# Altium schematic symbol library CRISTAL E OSCILADORES.SchLib: 6 symbols
Pins are listed as number, name and electrical type; pins without a type are passive.

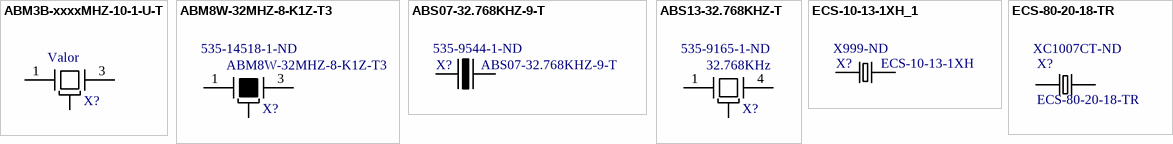
[diagram p0: symbols ABM3B-xxxxMHZ-10-1-U-T to ECS-80-20-18-TR]

## ABM3B-xxxxMHZ-10-1-U-T
designator X?, comment Valor
Crystal 10ppm _Tol_Stability_ 10pF FUND 50Ohm 4-Pin CSMD T/R; MPN: ABM3B-xxxxMHZ-10-1-U-T; FAbricante: Abracon; Footprint: SMD-4 Abracon; Value: Valor
footprint ABM3B_SMD 4PIN (Cristal ABM3B smd 4pin, ABRACN)
pins: 1, 2 GND, 3, 4 GND

## ABM8W-32MHZ-8-K1Z-T3
designator X?  Supplier Part Number 1: 535-14518-1-ND
CRYSTAL 32.0000MHZ 8PF SMD; Manufacturer: Abracon; Manufacturer Part Number: ABM8W-32.0000MHZ-8-K1Z-T3; Fabricante: Abracon LLC; Frequency: 32MHz; Frequency Stability: 50ppm; Frequency Tolerance: 10ppm; ESR (Equivalent Series Resistance): 50R; MPN: ABM8W-32MHZ-8-K1Z-T3; Footprint: SMD-4 Abracon; Value: ABM8W-32MHZ-8-K1Z-T3; ComponentLink1Description: DATASHEET; ComponentLink1URL: https://abracon.com/Resonators/ABM8W.pdf; ComponentLink2Description: LOJA; ComponentLink2URL: https://www.digikey.com/product-detail/en/abracon-llc/ABM8W-32.0000MHZ-8-K1Z-T3/535-14518-1-ND/9462363; Supplier 1: Digi-Key; RoHS: No; Stock 1: 7415; Pricing 1: 1=0,69000, 10=0,60700, 50=0,56760, 100=0,50160, 500=0,47520, 1000=0,39600 (USD); Mount: Surface Mount; Case/Package: SMD/SMT; Min Operating Temperature: -40°C; Max Operating Temperature: 125°C; Packaging: Tape and Reel; Load Capacitance: 8pF; ComponentLink3URL: https://abracon.com/Resonators/ABM8W.pdf?src-supplier=Digi-Key; ComponentLink3Description: https://abracon.com/Resonators/ABM8W.pdf?src-supplier=Digi-Key
footprint 4-SMD, sem chumbo (32MHz ± 10ppm Cristal 8pF 40 Ohms 4-SMD, sem chumbo)
pins: 1, 2 GND, 3, 4 GND

## ABS07-32.768KHZ-9-T
designator X?  Supplier Part Number 1: 535-9544-1-ND
CRYSTAL 32.7680KHZ 9PF SMD; Manufacturer: Abracon; Fabricante: Abracon LLC; Insulation Resistance: 500MR; Frequency Stability: 20ppm; Series Resistance: 70kR; MPN: ABS07-32.768KHZ-9-T; Value: ABS07-32.768KHZ-9-T; Footprint: 2-SMD, sem chumbo; ComponentLink1Description: DATASHEET; ComponentLink1URL: https://abracon.com/Resonators/ABS07.pdf; ComponentLink2Description: LOJA; ComponentLink2URL: https://www.digikey.com/product-detail/en/abracon-llc/ABS07-32.768KHZ-9-T/535-9544-1-ND/1237011; Supplier 1: Digi-Key; Manufacturer Part Number: ABS07-32.768KHZ-9-T; RoHS: Yes; Category: Crystals; Stock 1: 58636; Pricing 1: 1=1,09000, 10=0,96100, 50=0,89880, 100=0,79420, 500=0,75240, 1000=0,62700 (USD); Mount: Surface Mount; Case/Package: CSMD; Number of Pins: 2; Min Operating Temperature: -40°C; Max Operating Temperature: 85°C; Termination: SMD/SMT; ESR (Equivalent Series Resistance): 70kR; Frequency: 32.768kHz; Load Capacitance: 9pF; Packaging: Tape and Reel; Frequency Tolerance: 20ppm; Package Quantity: 3000; Tolerance: 20ppm; Length: 3.2mm; Height: 0.035inch; Depth: 1.5mm; Width: 1.5mm; Radiation Hardening: No; REACH SVHC: No SVHC; Lead Free: Lead Free; ComponentLink3URL: https://datasheet.ciiva.com/855/abs07-855948.pdf?src-supplier=Digi-Key; ComponentLink3Description: https://datasheet.ciiva.com/855/abs07-855948.pdf?src-supplier=Digi-Key
footprint ABS07-32.768KHZ-9-T (32.768kHz ± 20ppm Cristal 9pF 70 kOhms 2-SMD, sem chumbo)
pins: 1, 2

## ABS13-32.768KHZ-T
designator X?, comment 32.768KHz  Supplier Part Number 1: 535-9165-1-ND
CRYSTAL 32.7680KHZ 12.5PF SMD; MPN: ABS13-32.768KHZ-T; FAbricante: Abracon; Frequency Tolerance: 20ppm; ESR (Equivalent Series Resistance): 65kR; Footprint: SMD-4 Abracon; Value: 32.768KHz; ComponentLink1Description: LOJA; ComponentLink1URL: https://www.digikey.com/product-detail/en/abracon-llc/ABS13-32.768KHZ-T/535-9165-1-ND/675682; Supplier 1: Digi-Key; Manufacturer: Abracon; Manufacturer Part Number: ABS13-32.768KHZ-T; RoHS: Yes; Category: Crystals; Stock 1: 67659; Pricing 1: 1=0,83000, 10=0,73400, 50=0,68580, 100=0,60610, 500=0,57420, 1000=0,47850 (USD); Mount: Surface Mount; Case/Package: SMD/SMT; Number of Pins: 4; Min Operating Temperature: -40°C; Max Operating Temperature: 85°C; Package Quantity: 1000; Frequency: 32.768kHz; Load Capacitance: 12.5pF; Packaging: Tape and Reel; Tolerance: 20ppm; Termination: SMD/SMT; Series Resistance: 65kR; Length: 6.9mm; Height: 0.051inch; Width: 0.055inch; Depth: 1.4mm; Radiation Hardening: No; REACH SVHC: Unknown; Lead Free: Lead Free; ComponentLink2URL: https://datasheet.ciiva.com/855/abs13-855008.pdf?src-supplier=Digi-Key; ComponentLink2Description: https://datasheet.ciiva.com/855/abs13-855008.pdf?src-supplier=Digi-Key; ComponentLink3URL: https://datasheet.ciiva.com/4944/abs13-19453-4944854.pdf?src-supplier=Mouser; ComponentLink3Description: https://datasheet.ciiva.com/4944/abs13-19453-4944854.pdf?src-supplier=Mouser; ComponentLink4URL: https://datasheet.ciiva.com/15116/getdatasheetpartid-719870-15116766.pdf?src-supplier=Verical; ComponentLink4Description: https://datasheet.ciiva.com/15116/getdatasheetpartid-719870-15116766.pdf?src-supplier=Verical; ComponentLink5URL: https://datasheet.ciiva.com/855/abs13-855009.pdf?src-supplier=Digi-Key; ComponentLink5Description: https://datasheet.ciiva.com/855/abs13-855009.pdf?src-supplier=Digi-Key; ComponentLink6URL: https://datasheet.ciiva.com/3174/abs13-3174309.pdf?src-supplier=Avnet; ComponentLink6Description: https://datasheet.ciiva.com/3174/abs13-3174309.pdf?src-supplier=Avnet
footprint ABS13_SMD 4PIN (Cristal ABS13 smd 4pin, ABRACON)
pins: 1, 2 GND, 3 GND, 4

## ECS-10-13-1XH_1
designator X?, comment ECS-10-13-1XH  Supplier Part Number 1: X999-ND
CRYSTAL 1.0000MHZ 13PF T/H; Manufacturer: ECS International; MF: ECS Inc.; Frequency Stability: 25ppm; Frequency: 1MHz; Frequency Tolerance: 30ppm; ESR (Equivalent Series Resistance): 30R; Digi-Key_Part_Number: X999-ND; Package: HC-49/U ECS International; SnapEDA_Link: https://www.snapeda.com/parts/ECS-10-13-1XH/ECS%20Inc./view-part/?ref=snap; MP: ECS-10-13-1XH; Digi-Key_Purchase_URL: https://www.digikey.com.br/product-detail/en/ecs-inc/ECS-10-13-1XH/X999-ND/827491?utm_source=snapeda&utm_medium=aggregator&utm_campaign=symbol; Value: *; Supplier 1: Digi-Key; Manufacturer Part Number: ECS-10-13-1XH; RoHS: Yes; Category: Crystals; Stock 1: 395; Pricing 1: 1=8,80000, 10=8,25000, 50=7,97500, 100=7,70000, 500=7,42500, 1000=6,87500 (USD); Mount: Through Hole; Min Operating Temperature: -10°C; Max Operating Temperature: 70°C; Package Quantity: 100; Load Capacitance: 13pF; Packaging: Bulk; Length: 0.447inch; Height: 0.53inch; Width: 0.183inch; Lead Free: Lead Free; ComponentLink1URL: https://datasheet.ciiva.com/854/partnumber4-854115.pdf?src-supplier=Digi-Key; ComponentLink1Description: https://datasheet.ciiva.com/854/partnumber4-854115.pdf?src-supplier=Digi-Key
footprint *XTAL_ECS-10-13-1XH
pins: 1, 2

## ECS-80-20-18-TR
designator X?  Supplier Part Number 1: XC1007CT-ND
CRYSTAL 8.0000MHZ 20PF SMD; Manufacturer: ECS International; Fabricante: ECS Inc.; Frequency: 8MHz; Tolerance: 30ppm; Frequency Stability: 100ppm; ESR (Equivalent Series Resistance): 100R; Value: ECS-80-20-18-TR; MPN: ECS-80-20-18-TR; Footprint: ECS-80-20-18-TR; Supplier 1: Digi-Key; Manufacturer Part Number: ECS-80-20-18-TR; RoHS: Yes; Category: Crystals; Stock 1: 3180; Pricing 1: 1=1,96000, 10=1,86800, 50=1,82500, 100=1,56420, 500=1,52076 (USD); Mount: Surface Mount; Case/Package: SMD/SMT; Min Operating Temperature: -40°C; Max Operating Temperature: 85°C; Package Quantity: 1000; Packaging: Tape and Reel; Load Capacitance: 20pF; Termination: SMD/SMT; Frequency Tolerance: 30ppm; Length: 0.465inch; Height: 0.098inch; Width: 0.217inch; Lead Free: Lead Free; ComponentLink1URL: https://datasheet.ciiva.com/853/csm-12r-853682.pdf?src-supplier=Digi-Key; ComponentLink1Description: https://datasheet.ciiva.com/853/csm-12r-853682.pdf?src-supplier=Digi-Key; ComponentLink2URL: https://datasheet.ciiva.com/853/csm-12r-853683.pdf?src-supplier=Digi-Key; ComponentLink2Description: https://datasheet.ciiva.com/853/csm-12r-853683.pdf?src-supplier=Digi-Key; ComponentLink3URL: https://datasheet.ciiva.com/853/csm-12r-853684.pdf?src-supplier=Digi-Key; ComponentLink3Description: https://datasheet.ciiva.com/853/csm-12r-853684.pdf?src-supplier=Digi-Key
footprint *XTAL_ECS-80-20-18-TR
pins: 1, 2, 3 2, 4 1